# Altium schematic symbol library RPOT.SchLib: 5 symbols
Pins are listed as number, name and electrical type; pins without a type are passive.

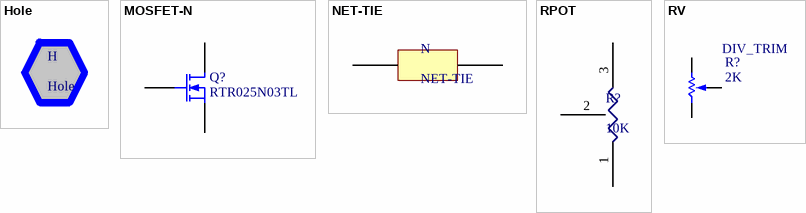
[diagram p0: symbols Hole to RV]

## Hole
designator H  (no BOM)
footprint Hole
footprint Model Name (Footprint not found)

## MOSFET-N
designator Q?, comment RTR025N03TL
N-Channel MOSFET; PackageDocument: 1995/1996; Published: 8-Jun-2000; LatestRevisionDate: 17-Jul-2002; LatestRevisionNote: Re-released for DXP Platform.; PackageReference: E3; Publisher: Altium Limited
simulation model NMOS (MOSFET-N)
footprint SOT23 (SOT23, 3-Leads, Body 3.0x2.5mm (max), Pitch 0.95mm, IPC Low Density)
pins: 1, 2, 3

## NET-TIE
designator N  (net tie, no BOM)
footprint NET-TIE
footprint NET-TIE
pins: 0, 1

## RPOT
designator R?, comment 10K
value: 10K
footprint RPOT
pins: 1, 2, 3

## RV
designator R?, comment DIV_TRIM  value 2K
Variable Resistor
footprint EVM2W (Variable Resistor)
footprint RPOT
pins: 1, 2, 3